# Altium schematic symbol library ZZB_Lib.SchLib: 89 symbols
Pins are listed as number, name and electrical type; pins without a type are passive.

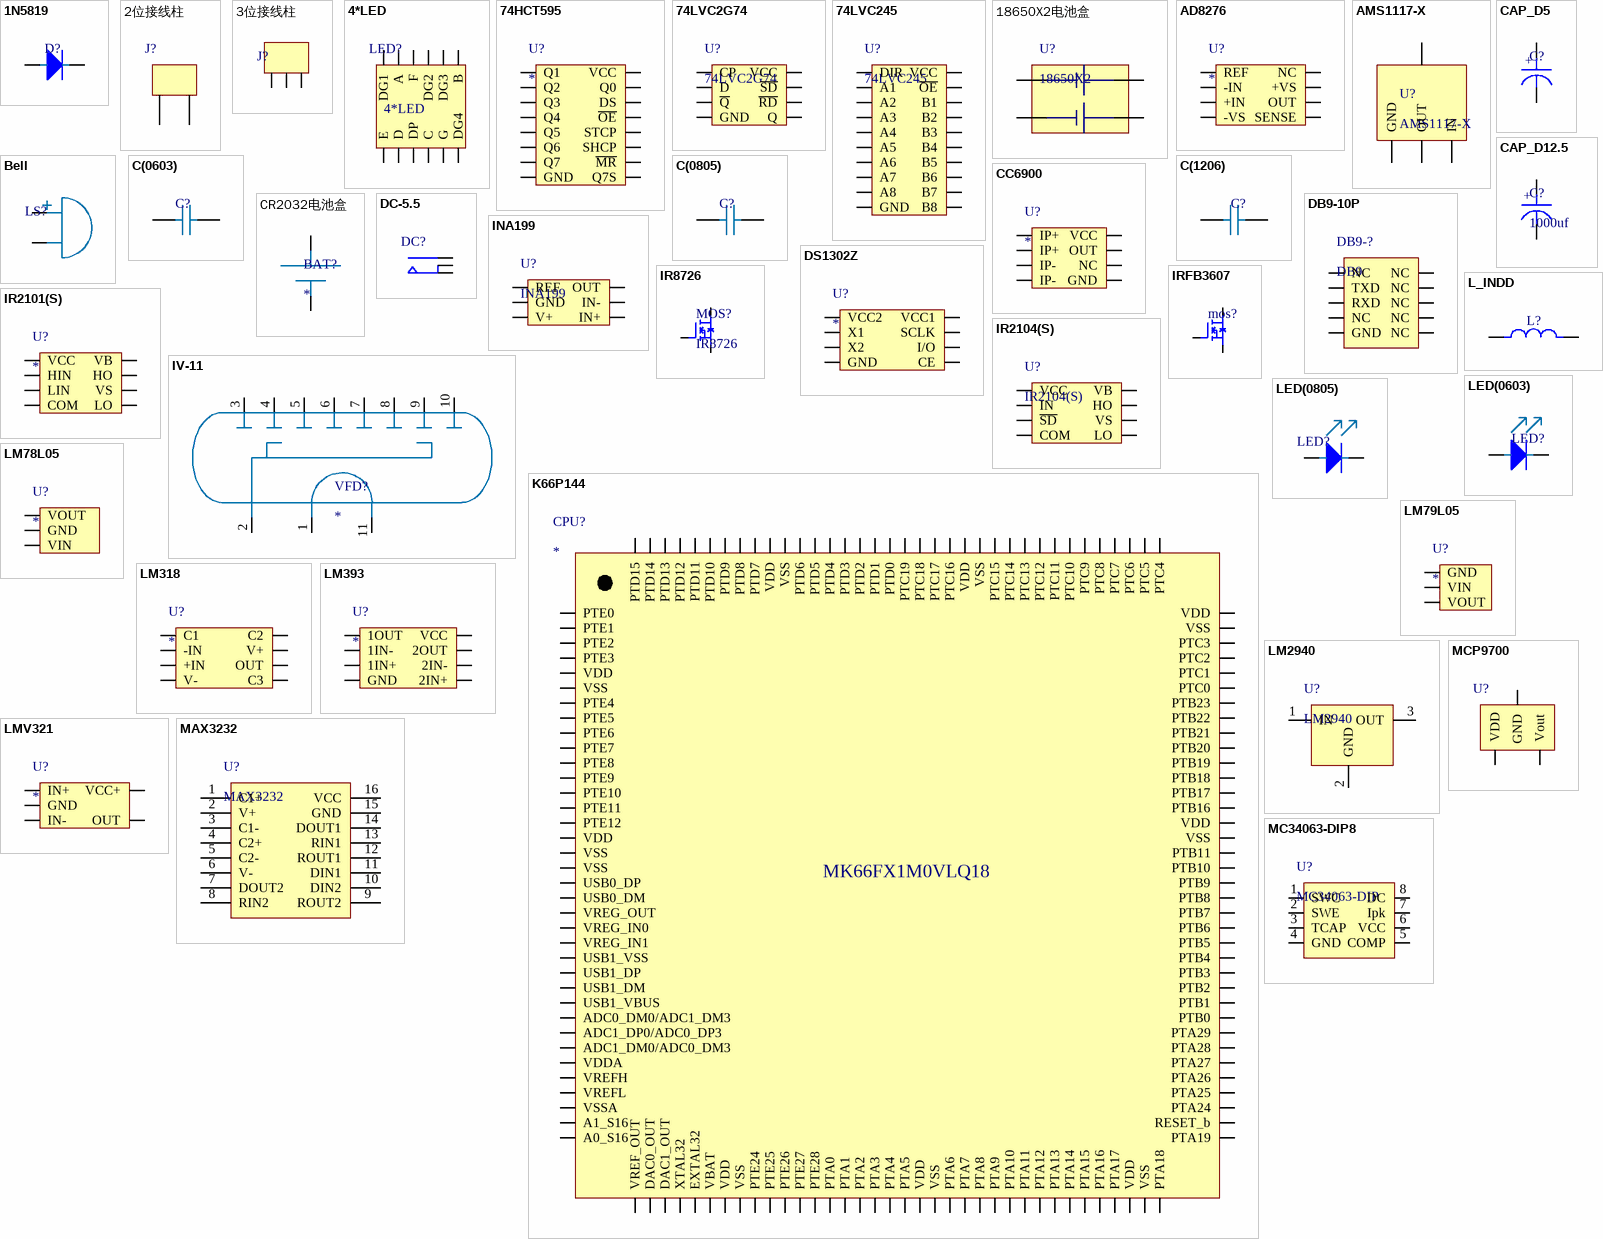
[diagram p0: symbols 1N5819 to MCP9700]

## 1N5819
designator D?  (value not drawn)
footprint 0805
pins: 1, 2

## 2位接线柱
designator J?  (value not drawn)
footprint 两位接线柱
pins: 1, 2

## 3位接线柱
designator J?  (value not drawn)
footprint 三位接线柱
pins: 1, 2, 3

## 4*LED
designator LED?  (value not drawn)
footprint 4位数码管
pins: 1 E, 2 D, 3 DP, 4 C, 5 G, 6 DG4, 7 B, 8 DG3, 9 DG2, 10 F, 11 A, 12 DG1

## 74HCT595
designator U?
footprint SOIC-16P
pins: 1 Q1, 2 Q2, 3 Q3, 4 Q4, 5 Q5, 6 Q6, 7 Q7, 8 GND, 9 Q7S, 10 ~{MR}, 11 SHCP, 12 STCP, 13 ~{OE}, 14 DS, 15 Q0, 16 VCC

## 74LVC2G74
designator U?
footprint TSOP-8N-74LVC2G74 (TSOP, 8-Leads, Body 3.00x3.00mm, Pitch 0.65mm, IPC Medium Density)
pins: 1 CP, 2 D, 3 ~{Q}, 4 GND, 5 Q, 6 ~{RD}, 7 ~{SD}, 8 VCC

## 74LVC245
designator U?
footprint TSOP-20N-74LVC245 (TSOP, 20-Leads, Body 6.50x4.40mm, Pitch 0.65mm, IPC Medium Density)
pins: 1 DIR, 2 A1, 3 A2, 4 A3, 5 A4, 6 A5, 7 A6, 8 A7, 9 A8, 10 GND, 11 B8, 12 B7, 13 B6, 14 B5, 15 B4, 16 B3, 17 B2, 18 B1, 19 ~{OE}, 20 VCC

## 18650X2电池盒
designator U?, comment 18650X2
footprint BK-18650
pins: 1, 2, 3, 4

## AD8276
designator U?
footprint MSOP_AD8276 (TSOP, 8-Leads, Body 3.00x3.00mm, Pitch 0.65mm, IPC Medium Density)
pins: 1 REF, 2 -IN, 3 +IN, 4 -VS, 5 SENSE, 6 OUT, 7 +VS, 8 NC

## AMS1117-X
designator U?
footprint AMS1117-3.3
pins: 1 GND, 2 OUT, 3 IN, 4

## Bell
designator LS?  (value not drawn)
footprint Bell
pins: 1, 2

## C(0603)
designator C?, comment C  (value not drawn)
footprint 0603
pins: 1, 2

## C(0805)
designator C?  (value not drawn)
footprint 0805
pins: 1, 2

## C(1206)
designator C?  (value not drawn)
footprint 1206 (Chip Capacitor, 2-Leads, Body 3.20x1.50mm, IPC Medium Density)
pins: 1, 2

## CAP_D5
designator C?
footprint CAP_5_2
pins: 1, 2
text: +

## CAP_D12.5
designator C?, comment 1000uf
footprint CAP_12.5_5
pins: 1, 2
text: +

## CC6900
designator U?
footprint SOIC-8N-IR2104(S) (SOIC, 8-Leads, Body 4.90x3.90mm, Pitch 1.27mm, IPC Medium Density)
pins: 1 IP+, 2 IP+, 3 IP-, 4 IP-, 5 GND, 6 NC, 7 OUT, 8 VCC

## CR2032电池盒
designator BAT?
footprint SBAT-CR2032
pins: 1, 2

## DB9-10P
designator DB9-?, comment DB9
footprint DB9-10P
pins: 1 NC, 2 TXD, 3 RXD, 4 NC, 5 GND, 6 NC, 7 NC, 8 NC, 9 NC, 10 NC

## DC-5.5
designator DC?  (value not drawn)
footprint DC5.5
pins: 1, 2, 3

## DS1302Z
designator U?
footprint SOIC-8P DS1302Z
pins: 1 VCC2, 2 X1, 3 X2, 4 GND, 5 CE, 6 I/O, 7 SCLK, 8 VCC1

## INA199
designator U?
footprint SOT65-6N-INA199 (SOT23, 6-Leads, Body 2.00x2.10mm, Pitch 0.65mm, IPC Medium Density)
pins: 1 REF, 2 GND, 3 V+, 4 IN+, 5 IN-, 6 OUT

## IR2101(S)
designator U?
footprint SOIC-8N-IR2104(S) (SOIC, 8-Leads, Body 4.90x3.90mm, Pitch 1.27mm, IPC Medium Density)
pins: 1 VCC, 2 HIN, 3 LIN, 4 COM, 5 LO, 6 VS, 7 HO, 8 VB

## IR2104(S)
designator U?
footprint SOIC-8N-IR2104(S) (SOIC, 8-Leads, Body 4.90x3.90mm, Pitch 1.27mm, IPC Medium Density)
pins: 1 VCC, 2 IN, 3 ~{SD}, 4 COM, 5 LO, 6 VS, 7 HO, 8 VB

## IR8726
designator MOS?
footprint DPAK-3N-MOS (D-PAK, 3-Pads, Body 6.21x6.73mm (max), IPC Medium Density)
pins: 1 G, 3 S, 4 D

## IRFB3607
designator mos?  (value not drawn)
footprint TO-220
pins: 1 G, 2 D, 3 S

## IV-11
designator VFD?
footprint IV-11
pins: 1, 2, 3, 4, 5, 6, 7, 8, 9, 10, 11

## K66P144
designator CPU?
footprint K66-LQFP144 (TSQFP, 144-Leads, Body 20.00x20.00mm, Pitch 0.50mm, IPC Medium Density)
pins: 1 PTE0, 2 PTE1, 3 PTE2, 4 PTE3, 5 VDD, 6 VSS, 7 PTE4, 8 PTE5, 9 PTE6, 10 PTE7, 11 PTE8, 12 PTE9, 13 PTE10, 14 PTE11, 15 PTE12, 16 VDD, 17 VSS, 18 VSS, 19 USB0_DP, 20 USB0_DM, 21 VREG_OUT, 22 VREG_IN0, 23 VREG_IN1, 24 USB1_VSS, 25 USB1_DP, 26 USB1_DM, 27 USB1_VBUS, 28 ADC0_DM0/ADC1_DM3, 29 ADC1_DP0/ADC0_DP3, 30 ADC1_DM0/ADC0_DM3, 31 VDDA, 32 VREFH, 33 VREFL, 34 VSSA, 35 A1_S16, 36 A0_S16, 37 VREF_OUT, 38 DAC0_OUT, 39 DAC1_OUT, 40 XTAL32, 41 EXTAL32, 42 VBAT, 43 VDD, 44 VSS, 45 PTE24, 46 PTE25, 47 PTE26, 48 PTE27, 49 PTE28, 50 PTA0, 51 PTA1, 52 PTA2, 53 PTA3, 54 PTA4, 55 PTA5, 56 VDD, 57 VSS, 58 PTA6, 59 PTA7, 60 PTA8, 61 PTA9, 62 PTA10, 63 PTA11, 64 PTA12, 65 PTA13, 66 PTA14, 67 PTA15, 68 PTA16, 69 PTA17, 70 VDD, 71 VSS, 72 PTA18, 73 PTA19, 74 RESET_b, 75 PTA24, 76 PTA25, 77 PTA26, 78 PTA27, 79 PTA28, 80 PTA29, 81 PTB0, 82 PTB1, 83 PTB2, 84 PTB3, 85 PTB4, 86 PTB5, 87 PTB6, 88 PTB7, 89 PTB8, 90 PTB9, 91 PTB10, 92 PTB11, 93 VSS, 94 VDD, 95 PTB16, 96 PTB17, 97 PTB18, 98 PTB19, 99 PTB20, 100 PTB21, 101 PTB22, 102 PTB23, 103 PTC0, 104 PTC1, 105 PTC2, 106 PTC3, 107 VSS, 108 VDD, 109 PTC4, 110 PTC5, 111 PTC6, 112 PTC7, 113 PTC8, 114 PTC9, 115 PTC10, 116 PTC11, 117 PTC12, 118 PTC13, 119 PTC14, 120 PTC15, 121 VSS, 122 VDD, 123 PTC16, 124 PTC17, 125 PTC18, 126 PTC19, 127 PTD0, 128 PTD1, 129 PTD2, 130 PTD3, 131 PTD4, 132 PTD5, 133 PTD6, 134 VSS, 135 VDD, 136 PTD7, 137 PTD8, 138 PTD9, 139 PTD10, 140 PTD11, 141 PTD12, 142 PTD13, 143 PTD14, 144 PTD15
text: MK66FX1M0VLQ18

## L_INDD
designator L?  (value not drawn)
footprint L_5
pins: 1, 2

## LED(0603)
designator LED?  (value not drawn)
footprint 0603
pins: 1, 2

## LED(0805)
designator LED?  (value not drawn)
footprint 0805
pins: 1, 2

## LM78L05
designator U?
footprint TO-92
pins: 1 VOUT, 2 GND, 3 VIN

## LM79L05
designator U?
footprint TO-92
pins: 1 GND, 2 VIN, 3 VOUT

## LM318
designator U?
footprint DIP8-100-300
pins: 1 C1, 2 -IN, 3 +IN, 4 V-, 5 C3, 6 OUT, 7 V+, 8 C2

## LM393
designator U?
footprint SOIC_8_LM393
pins: 1 1OUT, 2 1IN-, 3 1IN+, 4 GND, 5 2IN+, 6 2IN-, 7 2OUT, 8 VCC

## LM2940
designator U?
footprint LM2940
pins: 1 IN, 2 GND, 3 OUT

## LMV321
designator U?
footprint SOT23-5-LMV321 (SOT23, 5-Leads, Body 2.90x2.80mm, Pitch 0.95mm, IPC Medium Density)
pins: 1 IN+, 2 GND, 3 IN-, 4 OUT, 5 VCC+

## MAX3232
designator U?
footprint PDSO16 (SOP, 16-Leads, Body 9.90x3.90mm, Pitch 1.27mm, IPC Medium Density)
pins: 1 C1+, 2 V+, 3 C1-, 4 C2+, 5 C2-, 6 V-, 7 DOUT2, 8 RIN2, 9 ROUT2, 10 DIN2, 11 DIN1, 12 ROUT1, 13 RIN1, 14 DOUT1, 15 GND, 16 VCC

## MC34063-DIP8
designator U?, comment MC34063-DIP
footprint DIP8-100-300
pins: 1 SWC, 2 SWE, 3 TCAP, 4 GND, 5 COMP, 6 VCC, 7 Ipk, 8 DC

## MCP9700
designator U?  (value not drawn)
footprint SOT-23-s8550
pins: 1 VDD, 2 GND, 3 Vout

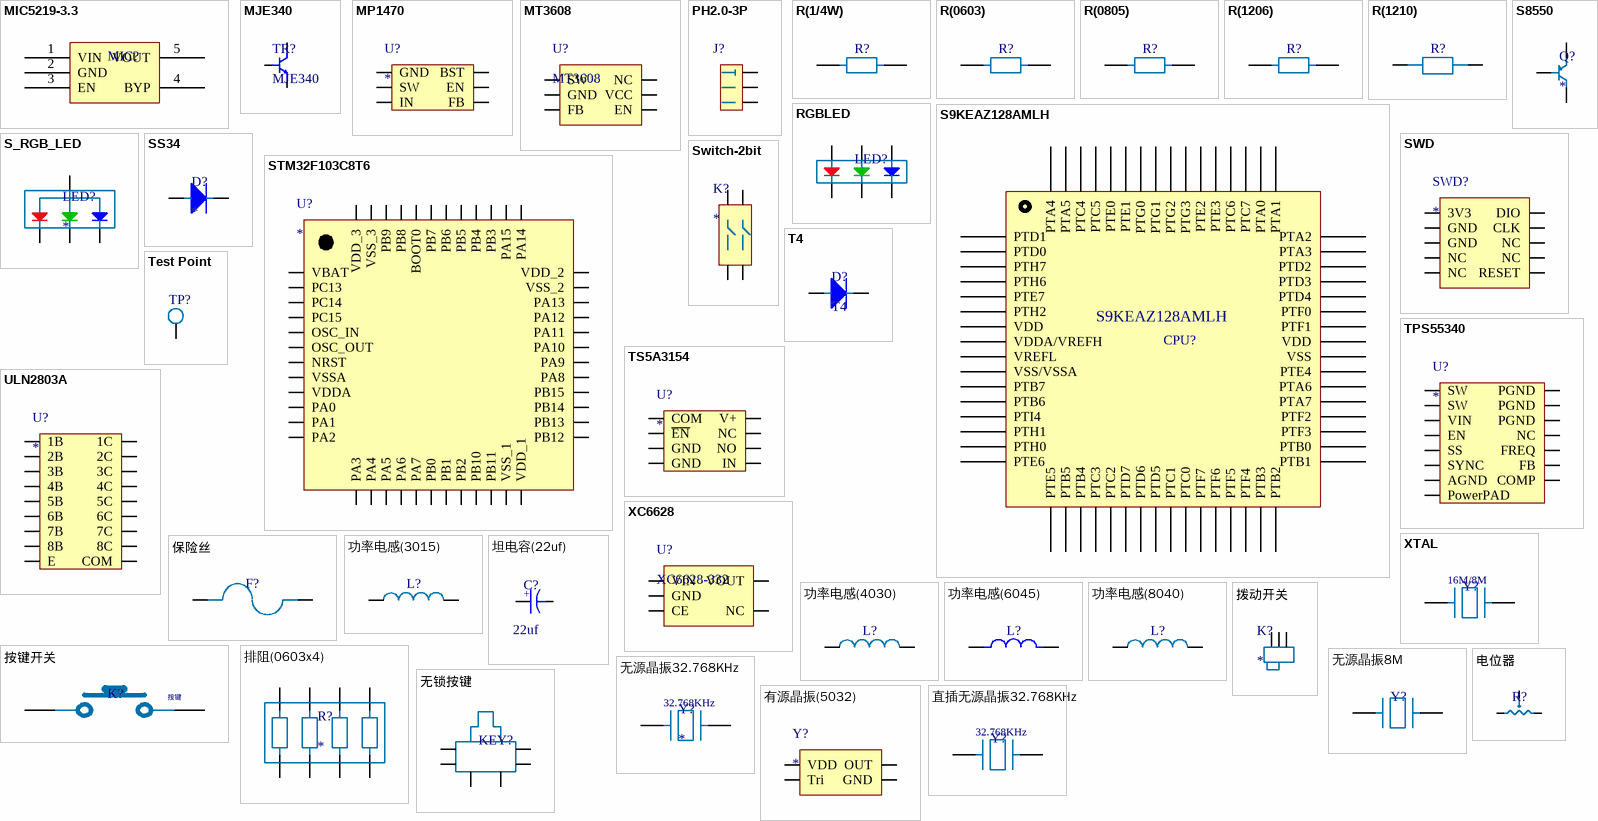
[diagram p1: symbols MIC5219-3.3 to 直插无源晶振32.768KHz]

## MIC5219-3.3
designator MIC?  (value not drawn)
footprint sot-23-5 (SOT23, 5-Leads, Body 3.0x3.0mm (max), Pitch 0.95mm, IPC Medium Density)
pins: 1 VIN, 2 GND, 3 EN, 4 BYP, 5 VOUT

## MJE340
designator TR?
footprint TO-220
pins: 1, 2, 3

## MP1470
designator U?
footprint SOT95-6N-MT3608 (SOT23, 6-Leads, Body 2.90x2.80mm, Pitch 0.95mm, IPC Medium Density)
pins: 1 GND, 2 SW, 3 IN, 4 FB, 5 EN, 6 BST

## MT3608
designator U?
footprint SOT95-6N-MT3608 (SOT23, 6-Leads, Body 2.90x2.80mm, Pitch 0.95mm, IPC Medium Density)
pins: 1 SW, 2 GND, 3 FB, 4 EN, 5 VCC, 6 NC

## PH2.0-3P
designator J?  (value not drawn)
footprint PH2.0-3P
pins: 0, 1, 2

## R(1/4W)
designator R?  (value not drawn)
footprint R-1/4W
pins: 1, 2

## R(0603)
designator R?, comment R  (value not drawn)
footprint 0603
pins: 1, 2

## R(0805)
designator R?  (value not drawn)
footprint 0805
pins: 1, 2

## R(1206)
designator R?  (value not drawn)
footprint 1206 (Chip Capacitor, 2-Leads, Body 3.20x1.50mm, IPC Medium Density)
pins: 1, 2

## R(1210)
designator R?  (value not drawn)
footprint 1210 (Chip Resistor, 2-Leads, Body 3.20x2.60mm, IPC Medium Density)
pins: 1, 2

## RGBLED
designator LED?  (value not drawn)
footprint RGBLED
pins: 1, 2, 3, 4, 5, 6

## S9KEAZ128AMLH
designator CPU?  (value not drawn)
footprint S9KEAZ128AMLH (TSQFP, 64-Leads, Body 10.00x10.00mm, Pitch 0.50mm, IPC Medium Density)
pins: 1 PTD1, 2 PTD0, 3 PTH7, 4 PTH6, 5 PTE7, 6 PTH2, 7 VDD, 8 VDDA/VREFH, 9 VREFL, 10 VSS/VSSA, 11 PTB7, 12 PTB6, 13 PTI4, 14 PTH1, 15 PTH0, 16 PTE6, 17 PTE5, 18 PTB5, 19 PTB4, 20 PTC3, 21 PTC2, 22 PTD7, 23 PTD6, 24 PTD5, 25 PTC1, 26 PTC0, 27 PTF7, 28 PTF6, 29 PTF5, 30 PTF4, 31 PTB3, 32 PTB2, 33 PTB1, 34 PTB0, 35 PTF3, 36 PTF2, 37 PTA7, 38 PTA6, 39 PTE4, 40 VSS, 41 VDD, 42 PTF1, 43 PTF0, 44 PTD4, 45 PTD3, 46 PTD2, 47 PTA3, 48 PTA2, 49 PTA1, 50 PTA0, 51 PTC7, 52 PTC6, 53 PTE3, 54 PTE2, 55 PTG3, 56 PTG2, 57 PTG1, 58 PTG0, 59 PTE1, 60 PTE0, 61 PTC5, 62 PTC4, 63 PTA5, 64 PTA4

## S8550
designator Q?
footprint SOT-23-s8550
pins: 1, 2, 3

## S_RGB_LED
designator LED?
footprint S_LED_RGB
pins: 1, 2, 3, 4

## SS34
designator D?
footprint DO-214AC (Molded Diode, 2-Leads, Body 5.00x2.49mm, IPC Medium Density)
pins: 1, 2

## STM32F103C8T6
designator U?
footprint STM32F103x8LQFP48 (TSQFP, 48-Leads, Body 7.00x7.00mm, Pitch 0.50mm, IPC Medium Density)
pins: 1 VBAT, 2 PC13, 3 PC14, 4 PC15, 5 OSC_IN, 6 OSC_OUT, 7 NRST, 8 VSSA, 9 VDDA, 10 PA0, 11 PA1, 12 PA2, 13 PA3, 14 PA4, 15 PA5, 16 PA6, 17 PA7, 18 PB0, 19 PB1, 20 PB2, 21 PB10, 22 PB11, 23 VSS_1, 24 VDD_1, 25 PB12, 26 PB13, 27 PB14, 28 PB15, 29 PA8, 30 PA9, 31 PA10, 32 PA11, 33 PA12, 34 PA13, 35 VSS_2, 36 VDD_2, 37 PA14, 38 PA15, 39 PB3, 40 PB4, 41 PB5, 42 PB6, 43 PB7, 44 BOOT0, 45 PB8, 46 PB9, 47 VSS_3, 48 VDD_3

## SWD
designator SWD?
footprint SWD下载(2*5)) (Footprint not found)
pins: 1 3V3, 2 DIO, 3 GND, 4 CLK, 5 GND, 6 NC, 7 NC, 8 NC, 9 NC, 10 RESET

## Switch-2bit
designator K?
footprint Switch-2bit
pins: 1, 2, 3, 4

## T4
designator D?
footprint SOD-123-T4
pins: 1, 2

## Test Point
designator TP?  (value not drawn)
footprint TestPoint
pins: 0

## TPS55340
designator U?
footprint PWP_TPS55340
pins: 0 PowerPAD, 1 SW, 2 SW, 3 VIN, 4 EN, 5 SS, 6 SYNC, 7 AGND, 8 COMP, 9 FB, 10 FREQ, 11 NC, 12 PGND, 13 PGND, 14 PGND

## TS5A3154
designator U?
footprint TSSOP-8N_TS5A3145 (TSSOP, 8-Leads, Body 2.00x2.30mm, Pitch 0.50mm, IPC Medium Density)
pins: 1 COM, 2 ~{EN}, 3 GND, 4 GND, 5 IN, 6 NO, 7 NC, 8 V+

## ULN2803A
designator U?
footprint SOIC-18P
pins: 1 1B, 2 2B, 3 3B, 4 4B, 5 5B, 6 6B, 7 7B, 8 8B, 9 E, 10 COM, 11 8C, 12 7C, 13 6C, 14 5C, 15 4C, 16 3C, 17 2C, 18 1C

## XC6628
designator U?, comment XC6628-332
footprint sot-23-5 (SOT23, 5-Leads, Body 3.0x3.0mm (max), Pitch 0.95mm, IPC Medium Density)
pins: 1 VIN, 2 GND, 3 CE, 4 NC, 5 VOUT

## XTAL
designator Y?  (value not drawn)
footprint 晶振（16/8） (Chip Capacitor, 2-Leads, Body 5.00x3.20mm, IPC Medium Density)
pins: 1, 2
text: 16M/8M

## 保险丝
designator F?  (value not drawn)
footprint 1812 (Chip2-Leads, Body 4.55x3.24mm, IPC Medium Density)
pins: 1, 2

## 功率电感(3015)
designator L?  (value not drawn)
footprint INDP3.0*3.0*1.5 (Precision Wire Wound Inductor, 2-Leads, Body 3.10x3.10mm, IPC Medium Density)
pins: 1, 2

## 功率电感(4030)
designator L?  (value not drawn)
footprint 4.0*4.0*3.0
pins: 1, 2

## 功率电感(6045)
designator L?  (value not drawn)
footprint INDP6.0*6.0*4.7 (Precision Wire Wound Inductor, 2-Leads, Body 6.15x6.15mm, IPC Medium Density)
pins: 1, 2

## 功率电感(8040)
designator L?  (value not drawn)
footprint 8040 (Precision Wire Wound Inductor, 2-Leads, Body 8.15x8.15mm, IPC Medium Density)
pins: 1, 2

## 坦电容(22uf)
designator C?  value 22uf  (hidden comment: 坦电容(22uf))
footprint B型钽电容（226） (Chip Capacitor, 2-Leads, Body 3.7x3.0mm, IPC Medium Density)
pins: 1, 2
text: +

## 拨动开关
designator K?
footprint 拨动开关
pins: 1, 2, 3

## 按键开关
designator K?  (value not drawn)
footprint 贴片按键
pins: 1, 2
text: 按键

## 排阻(0603x4)
designator R?
footprint 0603_x4
pins: 1, 2 1, 3 2, 4 2, 5 1, 6 1, 7 2, 8 2

## 无源晶振8M
designator Y?  (value not drawn)
footprint 晶振8M
pins: 1, 2

## 无源晶振32.768KHz
designator Y?
footprint 晶振32.768KHz
pins: 1, 2
text: 32.768KHz

## 无锁按键
designator KEY?  (value not drawn)
footprint 侧面按键
pins: 1, 2, 3, 4, 5, 6

## 有源晶振(5032)
designator Y?
footprint 晶振50MHz
pins: 1 Tri, 2 GND, 3 OUT, 4 VDD

## 电位器
designator R?  (value not drawn)
footprint TO-220
pins: 1, 2, 3

## 直插无源晶振32.768KHz
designator Y?  (value not drawn)
footprint 2*6_OSC
pins: 1, 2
text: 32.768KHz

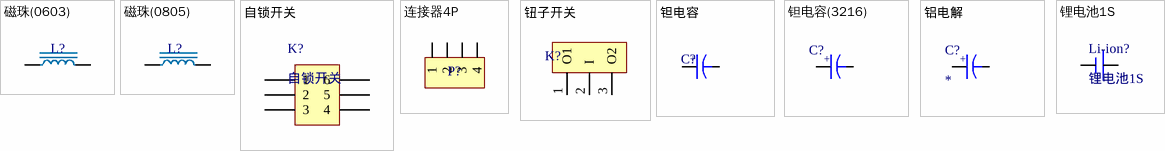
[diagram p2: symbols 磁珠(0603) to 锂电池1S]

## 磁珠(0603)
designator L?  (value not drawn)
footprint 0603
pins: 1, 2

## 磁珠(0805)
designator L?  (value not drawn)
footprint 0805
pins: 1, 2

## 自锁开关
designator K?
footprint 自锁开关（小）
pins: 1, 2, 3, 4, 5, 6

## 连接器4P
designator P?  (value not drawn)
footprint Connector4P
pins: 1, 2, 3, 4

## 钮子开关
designator K?  (value not drawn)
footprint 纽子开关
pins: 1 O1, 2 I, 3 O2

## 钽电容
designator C?  (value not drawn)
Published: 23-Sep-2002; PackageReference: CAPR5-4X5; Publisher: Altium Limited; PackageDescription: Capacitor; 2 Leads
footprint 钽电容（227）
pins: 1, 2
text: +

## 钽电容(3216)
designator C?, comment 钽电容  (value not drawn)
footprint CAPCP3216X06N (Chip Capacitor, 2-Leads, Body 3.20x1.60mm, IPC Medium Density)
pins: 1, 2
text: +

## 铝电解
designator C?
footprint 贴片铝电解8*10
pins: 1, 2
text: +

## 锂电池1S
designator Li-ion?
footprint 锂电池1S
pins: 1, 2